# Altium schematic symbol library SCH - SENSOR - LEM - HAS100-P.SCHLIB: 1 symbol
Pins are listed as number, name and electrical type; pins without a type are passive.

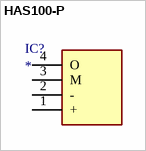
[diagram p0: symbol HAS100-P]

## HAS100-P
designator IC?
Integrated Circuit
pins: 1 +, 2 -, 3 M, 4 O